# EAGLE library part 74*393 (library common)
Dual 4-bit decade and binary COUNTER
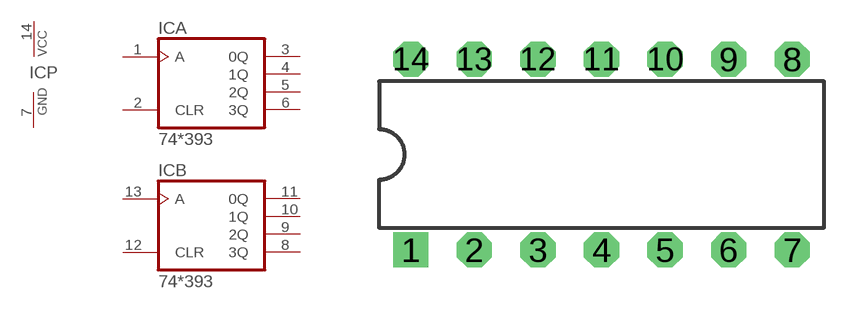
[diagram p49: symbol with the pads of DIL14; footprint DIL14]

Designator prefix IC; gates A=74393 B=74393 P=PWRN-11

## 74393N, 74AC393N, 74HC393N, 74HCT393N, 74LS393N  [DIL14]
1  A:A  in
2  A:CLR  in
3  A:0Q  out
4  A:1Q  out
5  A:2Q  out
6  A:3Q  out
7  P:GND  pwr
8  B:3Q  out
9  B:2Q  out
10  B:1Q  out
11  B:0Q  out
12  B:CLR  in
13  B:A  in
14  P:VCC  pwr

## Footprint DIL14 (pad centres in mm)
Dual In Line Package
drill 0.9 square: 1 -7.62,-3.81
drill 0.9 octagon: 2 -5.08,-3.81; 3 -2.54,-3.81; 4 0,-3.81; 5 2.54,-3.81; 6 5.08,-3.81; 7 7.62,-3.81; 8 7.62,3.81; 9 5.08,3.81; 10 2.54,3.81; 11 0,3.81; 12 -2.54,3.81; 13 -5.08,3.81; 14 -7.62,3.81